# Altium footprint library DE-130817.PcbLib: 37 footprints (part 1 of 3)
Each footprint in its own frame and in the unit in brackets; x right, y up, seen from the top. Pads: shape width x height; smd on the part's side, far side on the other; paste and mask are expansions set on the pad; w line width, h text height; cw(c..) or ccw(c..) is an arc to the next point about the centre after c.
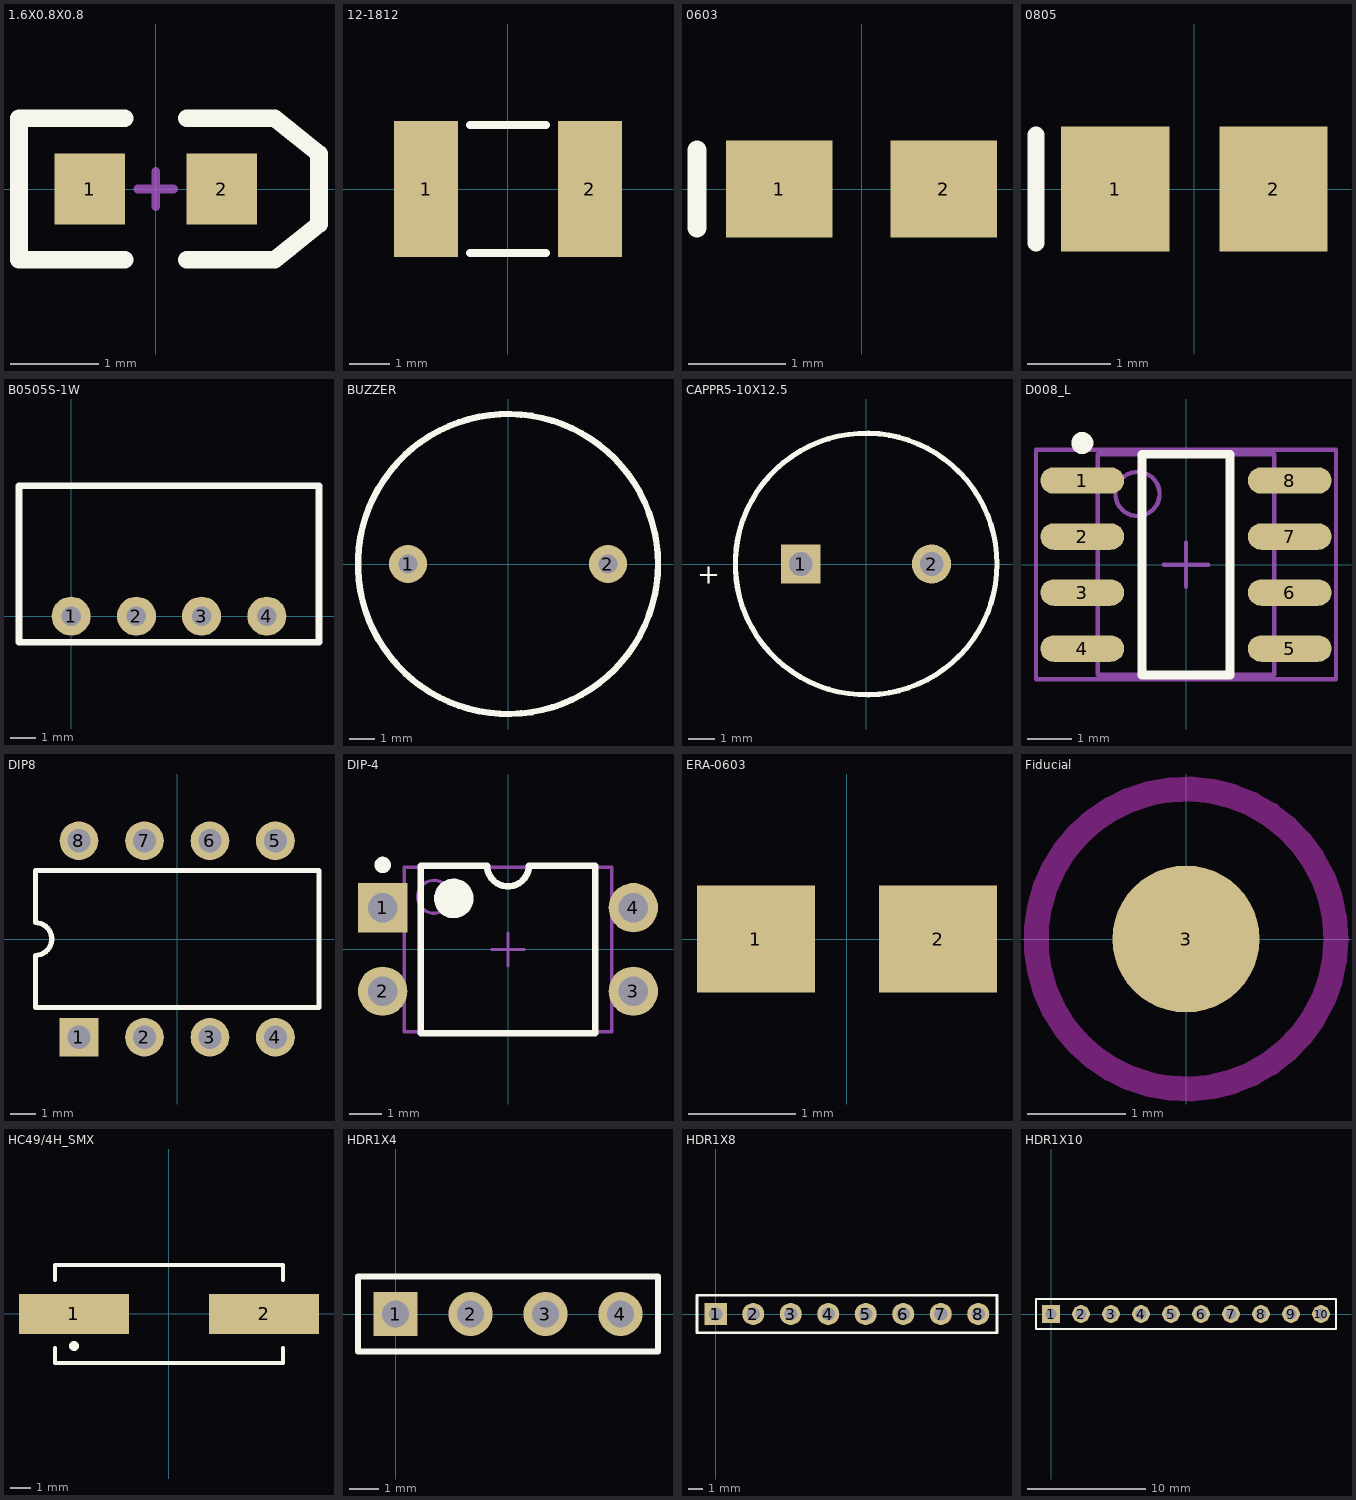
[diagram p0: the footprints below, top view; thin cyan lines are the x and y axes]

## 1.6X0.8X0.8 [mm] "SM LED; 2 Flat Leads"
height 4.83
pads (2):
  rect 0.8x0.8 smd: 1(-0.75,0) 2(0.75,0)
Top Overlay:
  lines w0.2: -0.35,-0.8 -1.55,-0.8 -1.55,0.8 -0.35,0.8 ; 0.35,-0.8 1.35,-0.8 1.85,-0.4 1.85,0.4 1.35,0.8 0.35,0.8
Mechanical 1:
  lines w0.1: -0.2,0 0.2,0 ; 0,-0.2 0,0.2

## 12-1812 [mm] "Chip Resistor; Body 4.5 x 3.2 mm (LxW typ)"
height 0.7
pads (2):
  rect 1.6x3.4 smd: 1(-2.05,0) 2(2.05,0)
Top Overlay:
  lines w0.2: -0.95,-1.6 0.95,-1.6 ; -0.95,1.6 0.95,1.6

## 0603 [mm] "Chip Capacitor; Body 1.6 x 0.8 mm (LxW typ)"
height 0.87
pads (2):
  rect 1.1x1 smd: 1(-0.85,0) 2(0.85,0)
Top Overlay:
  lines w0.2: -1.7,-0.4 -1.7,0.4

## 0805 [mm] "Chip Capacitor; Body 2.0 x 1.2 mm (LxW typ)"
height 1.3
pads (2):
  rect 1.3x1.5 smd: 1(-0.95,0) 2(0.95,0)
Top Overlay:
  lines w0.2: -1.9,-0.65 -1.9,0.65

## B0505S-1W [mil] "Isolated DC DC converter"
height 393.7
pads (4):
  round 60 hole 30: 1(0,0) 2(100,0) 3(200,0) 4(300,0)
Top Overlay:
  lines w10: -80,-40 380,-40 380,200 -80,200 ; -80,-39.37 -80,196.85
3D body: height 393.7, standoff 19.68, extent -80,-40 380,200

## BUZZER [mil] "5Vdc PCB buzzer"
height 393.7
pads (2):
  round 60 hole 30: 1(-157.48,0) 2(157.48,0)
Top Overlay:
  circle w10: c0,0 r236.22
3D body: height 377.95, standoff 0, extent -236.21,-236.15 236.23,236.17

## CAPPR5-10X12.5 [mm] "Capacitor, Electrolytic, Radial; Body 10 x 12.5 mm (Dia.xH typ); Pin Spacing 5 mm (typ)"
height 14.5
pads (2):
  rect 1.5x1.5 hole 0.9: 1(-2.5,0)
  round 1.5 hole 0.9: 2(2.5,0)
Top Overlay:
  circle w0.2: c0,0 r5
  text "+" at -6.465,-0.75 h0.76
3D body: height 12.5, standoff 0, extent -5,-5 5,5

## D008_L [mm] "SOIC, 8-Leads, Body 4.9x3.9mm, Pitch 1.27mm, IPC High Density"
height 1.75
pads (8):
  oval 1.9x0.6 smd: 1(-2.35,1.905) 2(-2.35,0.635) 3(-2.35,-0.635) 4(-2.35,-1.905) 5(2.35,-1.905) 6(2.35,-0.635) 7(2.35,0.635) 8(2.35,1.905)
Top Overlay:
  circle w0.25: c-2.35,2.755 r0.125
  lines w0.2: -1,-2.5 1,-2.5 1,2.5 -1,2.5 -1,-2.5
Mechanical 13:
  circle w0.1: c-1.1,1.6 r0.5
  lines w0.1: -2,-2.5 2,-2.5 2,2.5 -2,2.5 -2,-2.5
Mechanical 15:
  lines w0.1: -0.5,0 0.5,0 ; 0,-0.5 0,0.5 ; -3.4,-2.6 3.4,-2.6 3.4,2.6 -3.4,2.6 -3.4,-2.6
3D body: height 1.75, standoff 0, extent -2,-2.5 2,2.5

## DIP8 [mm] "DIP; 8 Leads; Row Spacing 7.62 mm; Pitch 2.54 mm"
height 5.08
pads (8):
  rect 1.5x1.5 hole 0.9: 1(-3.81,-3.81)
  round 1.5 hole 0.9: 2(-1.27,-3.81) 3(1.27,-3.81) 4(3.81,-3.81) 5(3.81,3.81) 6(1.27,3.81) 7(-1.27,3.81) 8(-3.81,3.81)
Top Overlay:
  lines w0.2: -5.5,-2.65 -5.5,-0.635 ccw(c-5.5,0) -5.5,0.635 -5.5,2.65 5.5,2.65 5.5,-2.65 -5.5,-2.65
3D body: height 5, standoff 1, extent -5.461,-2.667 5.461,2.667

## DIP-4 [mm] "DIP; 4 Leads; Row Spacing 7.62 mm; Pitch 2.54 mm"
height 5.6
pads (4):
  rect 1.5x1.5 hole 0.9: 1(-3.81,1.27)
  round 1.5 hole 0.9: 2(-3.81,-1.27) 3(3.81,-1.27) 4(3.81,1.27)
Top Overlay:
  circle w0.25: c-3.81,2.57 r0.125
  circle w0.6: c-1.65,1.55 r0.3
  lines w0.2: -2.65,-2.55 -2.65,2.55 -0.635,2.55 ccw(c0,2.55) 0.635,2.55 2.65,2.55 2.65,-2.55 -2.65,-2.55
Mechanical 13:
  circle w0.1: c-2.25,1.6 r0.5
  lines w0.1: -3.15,-2.5 -3.15,2.5 3.15,2.5 3.15,-2.5 -3.15,-2.5
Mechanical 15:
  lines w0.1: -0.5,0 0.5,0 ; 0,-0.5 0,0.5
3D body: height 5.6, standoff 0, extent -3.15,-2.5 3.15,2.5

## ERA-0603 [mm] "Chip Resistor; Body 1.6 x 0.8 mm (LxW typ)"
height 0.55
pads (2):
  rect 1.1x1 smd: 1(-0.85,0) 2(0.85,0)

## Fiducial [mm] "Pick and place machine mark"
height 10
pads (1):
  round 1.5 smd paste+0 mask+0.8: 3(0,0)
Keep-Out Layer:
  circle w0.254: c0,0 r1.529

## HC49/4H_SMX [mm] "Surface Mount Quartz Crystal; Body 13.4 (inc. leads) x 4.9 mm (LxW max)"
height 4.3
pads (2):
  rect 5.5x2 smd: 1(-4.75,0) 2(4.75,0)
Top Overlay:
  circle w0.25: c-4.75,-1.6 r0.125
  lines w0.2: -5.7,-1.7 -5.7,-2.45 5.7,-2.45 5.7,-1.7 ; -5.7,1.7 -5.7,2.45 5.7,2.45 5.7,1.7

## HDR1X4 [mm] "Connector; Header; 4 Position"
pads (4):
  rect 1.5x1.5 hole 0.9: 1(0,0)
  round 1.5 hole 0.9: 2(2.54,0) 3(5.08,0) 4(7.62,0)
Top Overlay:
  lines w0.2: -1.27,-1.27 -1.27,1.27 8.89,1.27 8.89,-1.27 -1.27,-1.27

## HDR1X8 [mm] "Connector; Header; 8 Position"
pads (8):
  rect 1.5x1.5 hole 0.9: 1(0,0)
  round 1.5 hole 0.9: 2(2.54,0) 3(5.08,0) 4(7.62,0) 5(10.16,0) 6(12.7,0) 7(15.24,0) 8(17.78,0)
Top Overlay:
  lines w0.2: -1.27,-1.27 19.05,-1.27 19.05,1.27 -1.27,1.27 -1.27,-1.27

## HDR1X10 [mm] "Connector; Header; 10 Position"
pads (10):
  rect 1.5x1.5 hole 0.9: 1(0,0)
  round 1.5 hole 0.9: 2(2.54,0) 3(5.08,0) 4(7.62,0) 5(10.16,0) 6(12.7,0) 7(15.24,0) 8(17.78,0) 9(20.32,0) 10(22.86,0)
Top Overlay:
  lines w0.2: -1.27,-1.27 -1.27,1.27 0.635,1.27 24.13,1.27 24.13,-1.27 -1.27,-1.27